# Altium footprint library TS5USBC410IYFFR.PcbLib: 1 footprints
Each footprint in its own frame and in the unit in brackets; x right, y up, seen from the top. Pads: shape width x height; smd on the part's side, far side on the other; paste and mask are expansions set on the pad; w line width, h text height; cw(c..) or ccw(c..) is an arc to the next point about the centre after c.
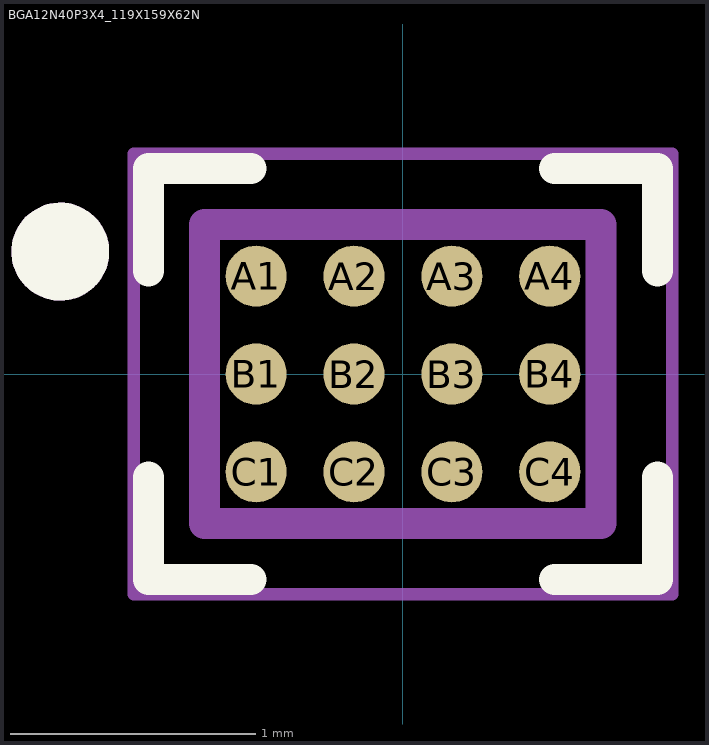
[diagram p0: the footprint, top view; thin cyan lines are the x and y axes]

## BGA12N40P3X4_119X159X62N [mm]
pads (12):
  round 0.25 smd: A1(-0.6,0.4) A2(-0.2,0.4) A3(0.2,0.4) A4(0.6,0.4) B1(-0.6,0) B2(-0.2,0) B3(0.2,0) B4(0.6,0) C1(-0.6,-0.4) C2(-0.2,-0.4) C3(0.2,-0.4) C4(0.6,-0.4)
Top Overlay:
  circle w0.2: c-1.4,0.5 r0.1
  lines w0.127: -1.04,-0.42 -1.04,-0.84 -0.62,-0.84 ; -1.04,0.42 -1.04,0.84 -0.62,0.84 ; 0.62,-0.84 1.04,-0.84 1.04,-0.42 ; 0.62,0.84 1.04,0.84 1.04,0.42
Mechanical 13:
  circle w0.2: c-1.4,0.5 r0.1
  lines w0.127: -0.81,-0.61 -0.81,0.61 0.81,0.61 0.81,-0.61 -0.81,-0.61
Mechanical 15:
  lines w0.05: -1.1,-0.9 -1.1,0.9 1.1,0.9 1.1,-0.9 -1.1,-0.9
3D body "step_temp.STEP": height 0.4, standoff -0.23, extent -0.799,-0.599 0.799,0.599